# EAGLE library part IS25LP256D-JLLE (library IS25LP256D-JLLE)
INTEGRATED SILICON SOLUTION (ISSI) - IS25LP256D-JLLE - NOR FLASH MEMORY 256MBIT, 166MHZ, WSON Source: Datasheet <http://www.issi.com/WW/pdf/IS25LP(WP)256D.pdf>
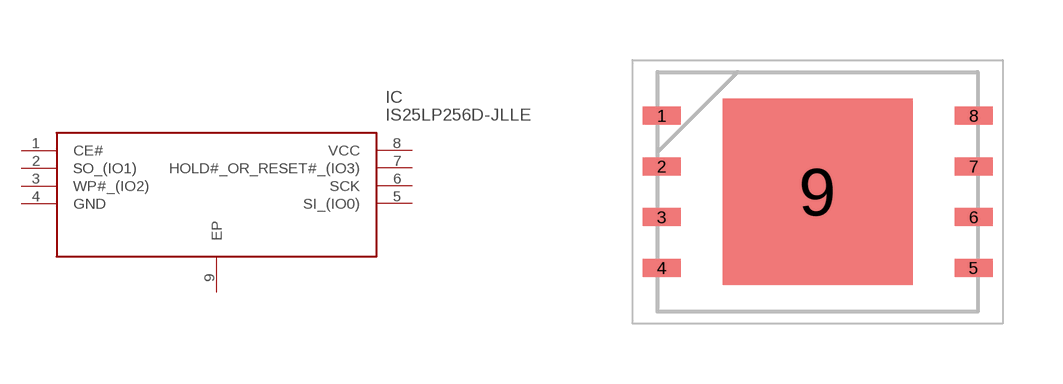
[diagram p0: symbol with the pads of SON127P800X600X80-9N; footprint SON127P800X600X80-9N]

Designator prefix IC

## IS25LP256D-JLLE (Arrow_Part_Number: IS25LP256D-JLLE; Arrow_Price-Stock: https://www.arrow.com/en/products/is25lp256d-jlle/integrated-silicon-solution-inc; Description: INTEGRATED SILICON SOLUTION (ISSI) - IS25LP256D-JLLE - NOR FLASH MEMORY 256MBIT, 166MHZ, WSON; Height: 0.8mm; Manufacturer_Name: Integrated Silicon Solution Inc.; Manufacturer_Part_Number: IS25LP256D-JLLE; Mouser_Part_Number: 870-IS25LP256D-JLLE; Mouser_Price-Stock: https://www.mouser.co.uk/ProductDetail/ISSI/IS25LP256D-JLLE?qs=o7k0yqUNuKBtHG3%252BsElLAA%3D%3D)  [SON127P800X600X80-9N]
1  CE#
2  SO_(IO1)
3  WP#_(IO2)
4  GND
5  SI_(IO0)
6  SCK
7  HOLD#_OR_RESET#_(IO3)
8  VCC
9  EP

## Footprint SON127P800X600X80-9N (pad centres in mm)
8-contact WSON 8x6mm
smd 0.95 x 0.45: 1 -3.9,1.905; 2 -3.9,0.635; 3 -3.9,-0.635; 4 -3.9,-1.905; 5 3.9,-1.905; 6 3.9,-0.635; 7 3.9,0.635; 8 3.9,1.905
smd 4.75 x 4.65: 9 0,0